# EAGLE library part *33033 (library motorola-sensor-driver)
Brushless DC Motor Controller http://onsemi.com; mc33033-d.pdf
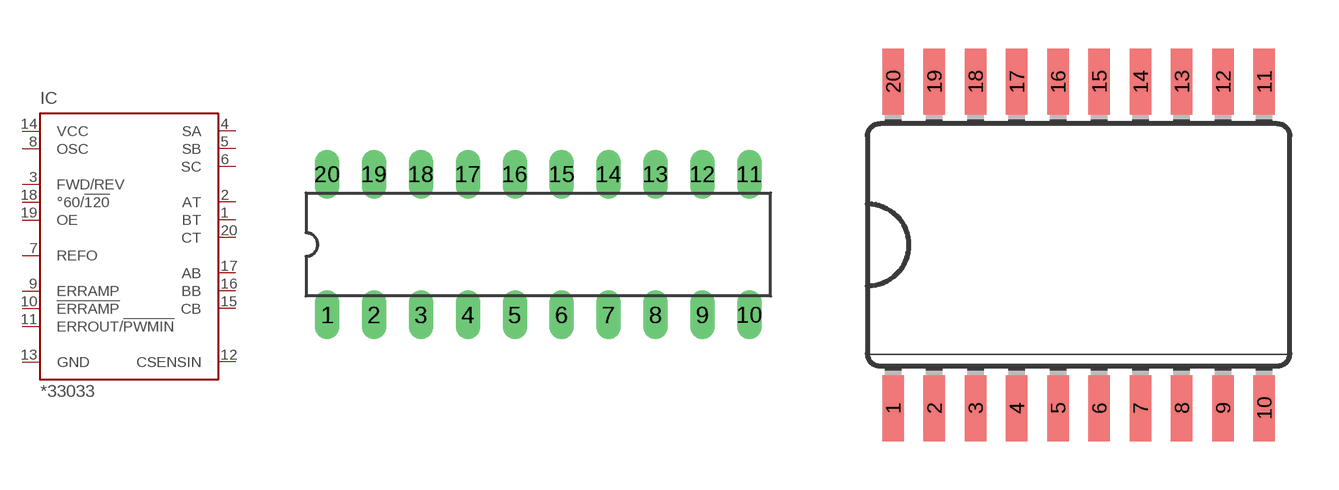
[diagram p4: symbol with the pads of DIL20; footprints DIL20, SO20L]

Designator prefix IC

## MC33033P (MF: ON SEMICONDUCTOR; MPN: MC33033P; OC_FARNELL: 702857; OC_NEWARK: 07F4693)  [DIL20]
1  BT  out
2  AT  out
3  FWD/REV  in
4  SA  in
5  SB  in
6  SC  in
7  REFO  out
8  OSC  in
9  ERRAMP  in
10  !ERRAMP  in
11  ERROUT/!PWMIN  pas
12  CSENSIN  in
13  GND  pwr
14  VCC  pwr
15  CB  out
16  BB  out
17  AB  out
18  °60/!120  in
19  OE  in
20  CT  out

## MC33033DW (MF: ON SEMICONDUCTOR; MPN: MC33033DW; OC_FARNELL: 1364058; OC_NEWARK: 07F4692), NCV33033DW (MF: ON SEMICONDUCTOR; MPN: NCV33033DWR2; OC_FARNELL: unknown; OC_NEWARK: 67C3169)  [SO20L]
Pads as for DIL20

## Footprint DIL20 (pad centres in mm)
Dual In Line
drill 0.813 long: 1 -11.43,-3.81; 2 -8.89,-3.81; 3 -6.35,-3.81; 4 -3.81,-3.81; 5 -1.27,-3.81; 6 1.27,-3.81; 7 3.81,-3.81; 8 6.35,-3.81; 9 8.89,-3.81; 10 11.43,-3.81; 11 11.43,3.81; 12 8.89,3.81; 13 6.35,3.81; 14 3.81,3.81; 15 1.27,3.81; 16 -1.27,3.81; 17 -3.81,3.81; 18 -6.35,3.81; 19 -8.89,3.81; 20 -11.43,3.81

## Footprint SO20L (pad centres in mm)
Small Outline Package
smd 0.66 x 2.032: 1 -5.715,-5.029; 2 -4.445,-5.029; 3 -3.175,-5.029; 4 -1.905,-5.029; 5 -0.635,-5.029; 6 0.635,-5.029; 7 1.905,-5.029; 8 3.175,-5.029; 9 4.445,-5.029; 10 5.715,-5.029; 11 5.715,5.029; 12 4.445,5.029; 13 3.175,5.029; 14 1.905,5.029; 15 0.635,5.029; 16 -0.635,5.029; 17 -1.905,5.029; 18 -3.175,5.029; 19 -4.445,5.029; 20 -5.715,5.029